# Altium schematic symbol library Transformers.SchLib: 17 symbols
Pins are listed as number, name and electrical type; pins without a type are passive.

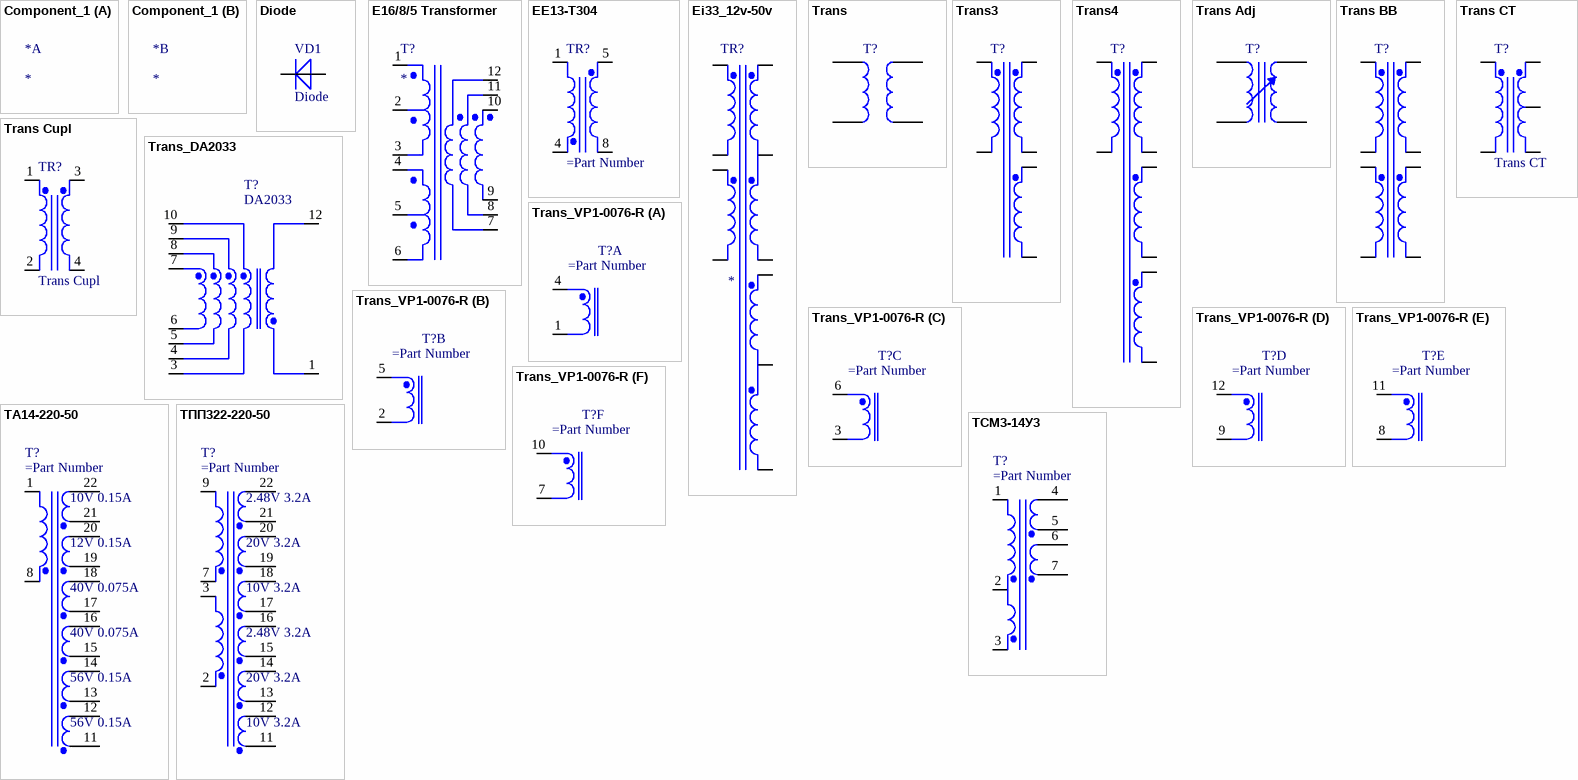
[diagram p0: symbols Component_1 to ТСМ3-14У3]

## Component_1
designator *

## Diode
designator VD1
Диод Шоттки 1A 40В [SMA / DO-214AC]; Part Number: SS14; Published: 8-Jun-2000; LatestRevisionDate: 17-Jul-2002; LatestRevisionNote: Re-released for DXP Platform.; DatasheetVersion: 1997; PackageReference: DO-35; Publisher: Altium Limited; PackageDescription: Diode, Axial; Body 3.8 x 1.9 mm (LxDia. max), Lead Dia. 0.53 mm (max); Code_JEDEC: DO-204-AH; ComponentLink1Description: Manufacturer Link; ComponentLink1URL: http://www.fairchildsemi.com/; ComponentLink2Description: Datasheet; ComponentLink2URL: http://www.fairchildsemi.com/ds/1N%2F1N4148.pdf; HelpURL: http://www.vishay.com/docs/88746/ss12.pdf
footprint SMA
pins: 1 A, 2 K

## E16/8/5 Transformer
designator T?
pins: 1, 2, 3, 4, 5, 6, 7, 8, 9, 10, 11, 12

## EE13-T304
designator TR?
Transformer (Coupled Inductor Model); Published: 8-Jun-2000; LatestRevisionDate: 17-Jul-2002; LatestRevisionNote: Re-released for DXP Platform.; PackageReference: TRF_4; Publisher: Altium Limited; PackageDescription: Transformer; 4 Leads
pins: 1 Pri+, 4 Pri-, 5, 8 Sec-

## Ei33_12v-50v
designator TR?
pins: 1 Pri1+, 3 Pri1-, 4 Pri2+, 6 Pri2-, 7 Sec2-, 8 Sec2-MID, 9 Sec2+, 10 Sec1-, 11 Sec1_MID, 12 Sec1+

## Trans
designator T?
Transformer; Published: 24-Mar-1999; LatestRevisionDate: 08-Jul-2005; LatestRevisionNote: Mech Layer 1 removed.; PackageReference: TRANS; Publisher: Altium Limited; PackageDescription: Transformer; 4 Leads
pins: 1, 2, 3, 4

## Trans3
designator T?
Three-winding Transformer (Non-Ideal); Sim Note: Enter the turns ratios, Core loss resistance, Magnetising Reactance, Leakage Reactances and Resistances referred to the primary side into the parameter fields.; Published: 25-Jan-2001; LatestRevisionDate: 17-Jul-2002; LatestRevisionNote: Re-released for DXP Platform.; PackageReference: TRF_6; Publisher: Altium Limited; PackageDescription: Transformer; 6 Leads
pins: 1 Pri+, 2 Pri-, 3 Sec1+, 4 Sec1-, 5 Sec2+, 6 Sec2-

## Trans4
designator T?
Four-winding Transformer (Non-Ideal); Sim Note: Enter the turns ratios, Core loss resistance, Magnetising Reactance, Leakage Reactances and Resistances referred to the primary side into the parameter fields.; Published: 25-Jan-2001; LatestRevisionDate: 17-Jul-2002; LatestRevisionNote: Re-released for DXP Platform.; PackageReference: TRF_8; Publisher: Altium Limited; PackageDescription: Transformer; 8 Leads
pins: 1 Pri+, 2 Pri-, 3 Sec1+, 4 Sec1-, 5 Sec2+, 6 Sec2-, 7 Sec3+, 8 Sec3-

## Trans Adj
designator T?
Variable Transformer; Published: 24-Mar-1999; LatestRevisionDate: 17-Jul-2002; LatestRevisionNote: Re-released for DXP Platform.; PackageReference: TRF_4; Publisher: Altium Limited; PackageDescription: Transformer; 4 Leads
pins: 1, 2, 3, 4

## Trans BB
designator T?
Buck-boost Transformer (Ideal); Published: 25-Jan-2001; LatestRevisionDate: 17-Jul-2002; LatestRevisionNote: Re-released for DXP Platform.; PackageReference: TRF_8; Publisher: Altium Limited; PackageDescription: Transformer; 8 Leads
pins: 1 Pri1+, 2 Pri1-, 3 Pri2+, 4 Pri2-, 5 Sec1+, 6 Sec1-, 7 Sec2+, 8 Sec2-

## Trans CT
designator T?
Center-Tapped Transformer (Coupled Inductor Model); Published: 8-Jun-2000; LatestRevisionDate: 17-Jul-2002; LatestRevisionNote: Re-released for DXP Platform.; PackageReference: TRF_5; Publisher: Altium Limited; PackageDescription: Transformer; 5 Leads
pins: 1 Pri+, 2 Pri-, 3 Sec+, 4 SecCT, 5 Sec-

## Trans Cupl
designator TR?
Transformer (Coupled Inductor Model); Published: 8-Jun-2000; LatestRevisionDate: 17-Jul-2002; LatestRevisionNote: Re-released for DXP Platform.; PackageReference: TRF_4; Publisher: Altium Limited; PackageDescription: Transformer; 4 Leads
pins: 1 Pri+, 2 Pri-, 3 Sec+, 4 Sec-

## Trans_DA2033
designator T?, comment DA2033
pins: 1, 3, 4, 5, 6, 7, 8, 9, 10, 12

## Trans_VP1-0076-R
designator T?
part A pins: 1, 4
part B pins: 2, 5
part C pins: 3, 6
part D pins: 9, 12
part E pins: 8, 11
part F pins: 7, 10

## ТА14-220-50
designator T?
Buck-boost Transformer (Ideal); Published: 25-Jan-2001; LatestRevisionDate: 17-Jul-2002; LatestRevisionNote: Re-released for DXP Platform.; PackageReference: TRF_8; Publisher: Altium Limited; PackageDescription: Transformer; 8 Leads
pins: 1 Pri2-, 8 Pri2+, 11 Sec2+, 12 Sec2-, 13 Sec2+, 14 Sec2-, 15 Sec2+, 16 Sec2-, 17 Sec2+, 18 Sec2-, 19 Sec2+, 20 Sec2-, 21 Sec2+, 22 Sec2-
text: 10V 0.15A; 12V 0.15A; 40V 0.075A; 56V 0.15A

## ТПП322-220-50
designator T?
Buck-boost Transformer (Ideal); Published: 25-Jan-2001; LatestRevisionDate: 17-Jul-2002; LatestRevisionNote: Re-released for DXP Platform.; PackageReference: TRF_8; Publisher: Altium Limited; PackageDescription: Transformer; 8 Leads
pins: 2 Pri1+, 3 Pri1-, 7 Pri2+, 9 Pri2-, 11 Sec2+, 12 Sec2-, 13 Sec2+, 14 Sec2-, 15 Sec2+, 16 Sec2-, 17 Sec2+, 18 Sec2-, 19 Sec2+, 20 Sec2-, 21 Sec2+, 22 Sec2-
text: 2.48V 3.2A; 20V 3.2A; 10V 3.2A

## ТСМ3-14У3
designator T?
pins: 1 Pri2-, 2 Pri2+, 3 Pri1+, 4 Sec2-, 5 Sec2+, 6 Sec2-, 7 Sec2+